# Altium footprint library AG.Mechanical.PcbLib: 2 footprints
Each footprint in its own frame and in the unit in brackets; x right, y up, seen from the top. Pads: shape width x height; smd on the part's side, far side on the other; paste and mask are expansions set on the pad; w line width, h text height; cw(c..) or ccw(c..) is an arc to the next point about the centre after c.
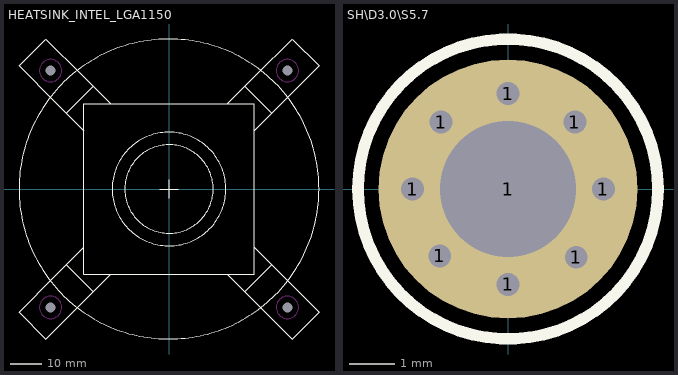
[diagram p0: the footprints below, top view; thin cyan lines are the x and y axes]

## HEATSINK_INTEL_LGA1150 [mm] "Heatsink for Intel Socket LGA1150"
height 40
pads (4):
  round 0 hole 3.175 unplated: 1(-37.5,37.5) 2(-37.5,-37.5) 3(37.5,-37.5) 4(37.5,37.5)
Top Overlay:
  circle w0.254: c0,0 r18
  circle w0.254: c0,0 r47.5
  circle w0.254: c0,0 r14
  lines w0.254: -32.475,-23.975 -23.975,-32.475 ; -32.475,23.975 -23.975,32.475 ; -26.996,-18.496 -36.017,-27.517 -47.5,-39 -39,-47.5 -27.517,-36.017 -18.508,-27.008 ; -3,0 3,0 ; 0,-3 0,3 ; 23.975,-32.475 32.475,-23.975 ; 23.975,32.475 32.475,23.975 ; 27,-18.5 36.008,-27.508 47.5,-39 39,-47.5 27.508,-36.008 18.5,-27 ; -27,18.5 -27,27 -18.5,27 ; -27,18.5 -27,18.25 -27,-27 17,-27 18.5,-27 ; -27,18.5 -36.008,27.508 -47.5,39 -39,47.5 -27.508,36.008 -18.5,27 ; -18.5,27 18.25,27 18.5,27 ; 18.5,-27 27,-27 27,18.5 ; 18.5,27 27.508,36.008 39,47.5 47.5,39 36.008,27.508 27,18.5 ; 18.5,27 27,27 27,18.5
Keep-Out Layer:
  circle w0.254: c37.5,37.5 r3.536
  circle w0.254: c-37.5,37.5 r3.536
  circle w0.254: c37.5,-37.5 r3.536
  circle w0.254: c-37.5,-37.5 r3.536

## SH\D3.0\S5.7 [mm] "Screw Hole D3.0/5.7 T/B"
height 0.7
pads (9):
  round 0.7 hole 0.5: 1(-2.1,0) 1(-1.499,-1.473) 1(-1.473,1.473) 1(0,-2.1) 1(0,2.1) 1(1.473,1.473) 1(1.499,-1.499) 1(2.1,0)
  round 5.7 hole 3: 1(0,0)
Top Overlay:
  circle w0.254: c0,0 r3.3
Mechanical 9:
  circle w0.102: c0,0 r2.1
  lines w0.102: -2.1,0 2.1,0 ; -1.499,-1.473 0,0.025 ; -1.473,1.473 0,0 ; 0,-2.1 0,2.1 ; 1.473,1.473 0,0 ; 1.499,-1.499 0,0